# Altium schematic symbol library Header.SchLib: 19 symbols
Pins are listed as number, name and electrical type; pins without a type are passive.

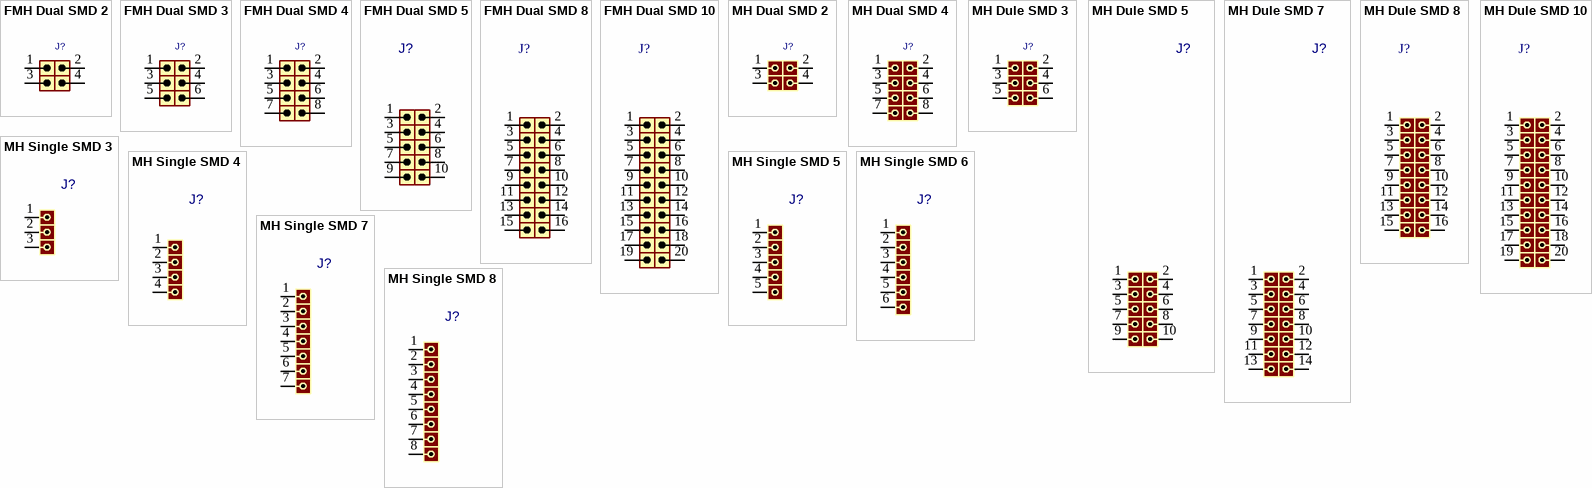
[diagram p0: symbols FMH Dual SMD 2 to MH Single SMD 8]

## FMH Dual SMD 2
designator J?
Female, pitch: 2mm, SMD; DatasheetVersion: 2022
pins: 1, 2, 3, 4

## FMH Dual SMD 3
designator J?
Female, pitch: 2mm, SMD; DatasheetVersion: 2022
pins: 1, 2, 3, 4, 5, 6

## FMH Dual SMD 4
designator J?
Female, pitch: 2mm, SMD; DatasheetVersion: 2022
pins: 1, 2, 3, 4, 5, 6, 7, 8

## FMH Dual SMD 5
designator J?
Female, pitch: 2mm, SMD; DatasheetVersion: 2022
pins: 1, 2, 3, 4, 5, 6, 7, 8, 9, 10

## FMH Dual SMD 8
designator J?
Female, pitch: 2mm, SMD; DatasheetVersion: 2022
pins: 1, 2, 3, 4, 5, 6, 7, 8, 9, 10, 11, 12, 13, 14, 15, 16

## FMH Dual SMD 10
designator J?
Female, pitch: 2mm, SMD; DatasheetVersion: 2022
pins: 1, 2, 3, 4, 5, 6, 7, 8, 9, 10, 11, 12, 13, 14, 15, 16, 17, 18, 19, 20

## MH Dual SMD 2
designator J?
Male, pitch: 2.54mm & 2.0mm, SMD; DatasheetVersion: 2022
pins: 1, 2, 3, 4

## MH Dual SMD 4
designator J?
Male, pitch: 2.54mm & 2.0mm, SMD; DatasheetVersion: 2022
pins: 1, 2, 3, 4, 5, 6, 7, 8

## MH Dule SMD 3
designator J?
Male, pitch: 2.54mm & 2.0mm, SMD; DatasheetVersion: 2022
pins: 1, 2, 3, 4, 5, 6

## MH Dule SMD 5
designator J?
Male, pitch: 2.54mm & 2.0mm, SMD; DatasheetVersion: 2022
pins: 1, 2, 3, 4, 5, 6, 7, 8, 9, 10

## MH Dule SMD 7
designator J?
Male, pitch: 2.54mm, SMD; DatasheetVersion: 2022
pins: 1, 2, 3, 4, 5, 6, 7, 8, 9, 10, 11, 12, 13, 14

## MH Dule SMD 8
designator J?
Male, pitch: 2.0mm, SMD; DatasheetVersion: 2022
pins: 1, 2, 3, 4, 5, 6, 7, 8, 9, 10, 11, 12, 13, 14, 15, 16

## MH Dule SMD 10
designator J?
Male, pitch: 2.0mm, SMD; DatasheetVersion: 2022
pins: 1, 2, 3, 4, 5, 6, 7, 8, 9, 10, 11, 12, 13, 14, 15, 16, 17, 18, 19, 20

## MH Single SMD 3
designator J?
Male, pitch: 2.54mm, SMD; DatasheetVersion: 2022
pins: 1 P1, 2 P2, 3

## MH Single SMD 4
designator J?
Male, pitch: 2.54mm, SMD; DatasheetVersion: 2022
pins: 1, 2, 3, 4

## MH Single SMD 5
designator J?
Male, pitch: 2.54mm, SMD; DatasheetVersion: 2022
pins: 1, 2, 3, 4, 5

## MH Single SMD 6
designator J?
Male, pitch: 2.54mm, SMD; DatasheetVersion: 2022
pins: 1, 2, 3, 4, 5, 6

## MH Single SMD 7
designator J?
Male, pitch: 2.54mm, SMD; DatasheetVersion: 2022
pins: 1, 2, 3, 4, 5, 6, 7

## MH Single SMD 8
designator J?
Male, pitch: 2.54mm, SMD; DatasheetVersion: 2022
pins: 1, 2, 3, 4, 5, 6, 7, 8